# Altium footprint library FootPrintLib_4.PcbLib: 700 footprints (part 12 of 44)
Each footprint in its own frame and in the unit in brackets; x right, y up, seen from the top. Pads: shape width x height; smd on the part's side, far side on the other; paste and mask are expansions set on the pad; w line width, h text height; cw(c..) or ccw(c..) is an arc to the next point about the centre after c.
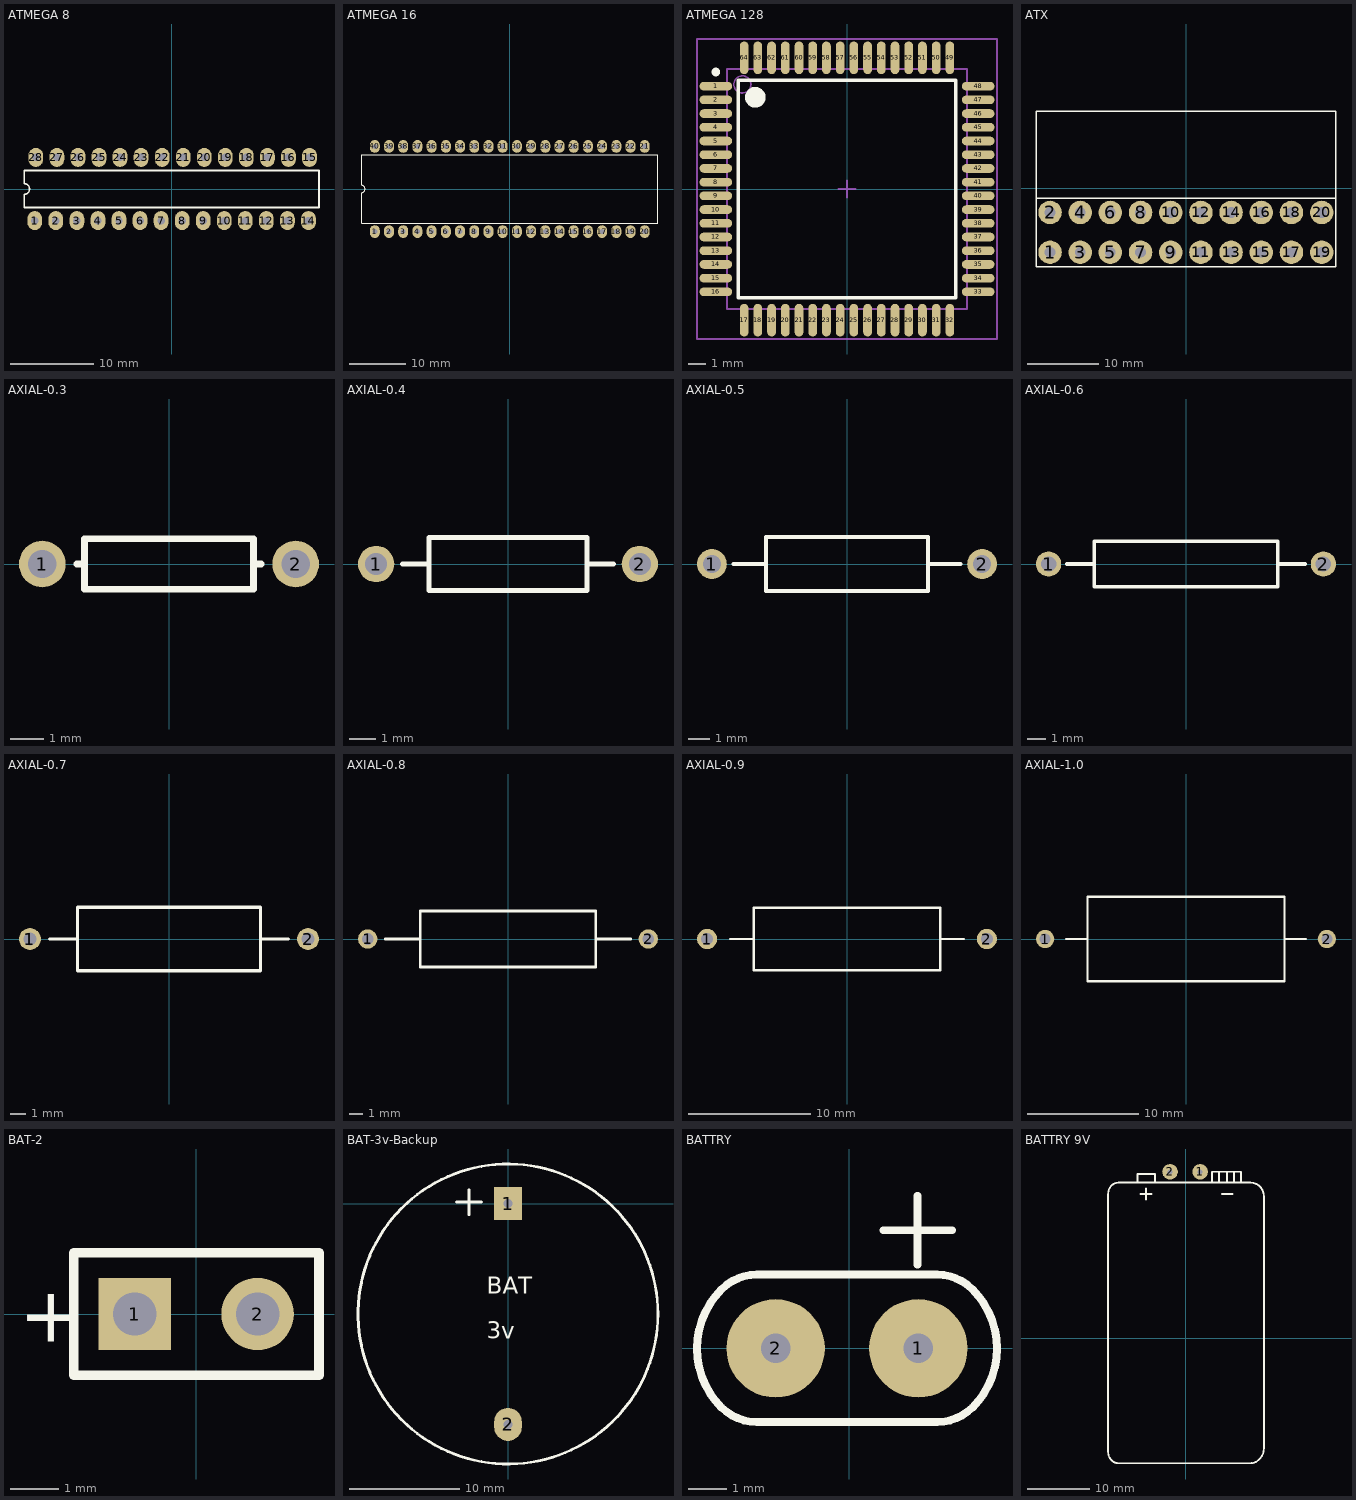
[diagram p11: the footprints below, top view; thin cyan lines are the x and y axes]

## ATMEGA 8 [mil]
pads (28):
  oval 70x90 hole 35.43: 1(-650,-150) 2(-550,-150) 3(-450,-150) 4(-350,-150) 5(-250,-150) 6(-150,-150) 7(-50,-150) 8(50,-150) 9(150,-150) 10(250,-150) 11(350,-150) 12(450,-150) 13(550,-150) 14(650,-150) 15(655,150) 16(555,150) 17(455,150) 18(355,150) 19(255,150) 20(155,150) 21(55,150) 22(-45,150) 23(-145,150) 24(-245,150) 25(-345,150) 26(-445,150) 27(-545,150) 28(-645,150)
Top Overlay:
  lines w7.87: -700,-87.6 -700,-25 ccw(c-700,0) -700,25 -700,87.6 700,87.6 700,-87.6 -700,-87.6

## ATMEGA 16 [mil]
pads (40):
  oval 70x90 hole 35.43: 1(-950,-300) 2(-850,-300) 3(-750,-300) 4(-650,-300) 5(-550,-300) 6(-450,-300) 7(-350,-300) 8(-250,-300) 9(-150,-300) 10(-50,-300) 11(50,-300) 12(150,-300) 13(250,-300) 14(350,-300) 15(450,-300) 16(550,-300) 17(650,-300) 18(750,-300) 19(850,-300) 20(950,-300) 21(950,300) 22(850,300) 23(750,300) 24(650,300) 25(550,300) 26(450,300) 27(350,300) 28(250,300) 29(150,300) 30(50,300) 31(-50,300) 32(-150,300) 33(-250,300) 34(-350,300) 35(-450,300) 36(-550,300) 37(-650,300) 38(-750,300) 39(-850,300) 40(-950,300)
Top Overlay:
  lines w7.87: -1043.31,-240 -1043.31,-25 ccw(c-1043.31,0) -1043.31,25 -1043.31,240 1043.31,240 1043.31,-240 -1043.31,-240

## ATMEGA 128 [mm]
pads (64):
  oval 1.905x0.508 smd: 1(-7.65,6) 2(-7.65,5.2) 3(-7.65,4.4) 4(-7.65,3.6) 5(-7.65,2.8) 6(-7.65,2) 7(-7.65,1.2) 8(-7.65,0.4) 9(-7.65,-0.4) 10(-7.65,-1.2) 11(-7.65,-2) 12(-7.65,-2.8) 13(-7.65,-3.6) 14(-7.65,-4.4) 15(-7.65,-5.2) 16(-7.65,-6) 33(7.65,-6) 34(7.65,-5.2) 35(7.65,-4.4) 36(7.65,-3.6) 37(7.65,-2.8) 38(7.65,-2) 39(7.65,-1.2) 40(7.65,-0.4) 41(7.65,0.4) 42(7.65,1.2) 43(7.65,2) 44(7.65,2.8) 45(7.65,3.6) 46(7.65,4.4) 47(7.65,5.2) 48(7.65,6)
  oval 0.508x1.905 smd: 17(-6,-7.65) 18(-5.2,-7.65) 19(-4.4,-7.65) 20(-3.6,-7.65) 21(-2.8,-7.65) 22(-2,-7.65) 23(-1.2,-7.65) 24(-0.4,-7.65) 25(0.4,-7.65) 26(1.2,-7.65) 27(2,-7.65) 28(2.8,-7.65) 29(3.6,-7.65) 30(4.4,-7.65) 31(5.2,-7.65) 32(6,-7.65) 49(6,7.65) 50(5.2,7.65) 51(4.4,7.65) 52(3.6,7.65) 53(2.8,7.65) 54(2,7.65) 55(1.2,7.65) 56(0.4,7.65) 57(-0.4,7.65) 58(-1.2,7.65) 59(-2,7.65) 60(-2.8,7.65) 61(-3.6,7.65) 62(-4.4,7.65) 63(-5.2,7.65) 64(-6,7.65)
Top Overlay:
  circle w0.25: c-7.65,6.825 r0.125
  circle w0.6: c-5.35,5.35 r0.3
  lines w0.2: -6.35,-6.35 -6.35,6.35 6.35,6.35 6.35,-6.35 -6.35,-6.35
Mechanical 13:
  circle w0.1: c-6.1,6.1 r0.5
  lines w0.1: -7,-7 -7,7 7,7 7,-7 -7,-7
Mechanical 15:
  lines w0.1: -0.5,0 0.5,0 ; 0,-0.5 0,0.5 ; -8.75,-8.75 -8.75,8.75 8.75,8.75 8.75,-8.75 -8.75,-8.75

## ATX [mil]
pads (20):
  round 130 hole 59.06: 1(-752.44,-355) 2(-752.44,-135) 3(-585.44,-355) 4(-585.44,-135) 5(-418.44,-355) 6(-418.44,-135) 7(-251.44,-355) 8(-251.44,-135) 9(-84.44,-355) 10(-84.44,-135) 11(82.56,-355) 12(82.56,-135) 13(249.56,-355) 14(249.56,-135) 15(416.56,-355) 16(416.56,-135) 17(583.56,-355) 18(583.56,-135) 19(750.56,-355) 20(750.56,-135)
Top Overlay:
  lines w8: -830,-55 830,-55 ; -830,-435 830,-435 830,425 -830,425 -830,-435

## AXIAL-0.3 [mm] "Axial Device, Thru-Hole; 2 Leads; 0.3 in Pin Spacing"
height 1.524
pads (2):
  round 1.4 hole 0.85: 1(-3.81,0) 2(3.81,0)
Top Overlay:
  lines w0.2: -2.769,0 -2.54,0 ; 2.769,0 2.54,0 ; 2.54,0 2.54,-0.762 -2.54,-0.762 -2.54,0.762 2.54,0.762 2.54,0

## AXIAL-0.4 [mm] "Axial Device, Thru-Hole; 2 Leads; 0.4 in Pin Spacing"
height 2.032
pads (2):
  round 1.4 hole 0.85: 1(-5.08,0) 2(5.08,0)
Top Overlay:
  lines w0.2: -4.064,0 -3.048,0 ; 3.048,0 4.064,0 ; -3.048,-1.016 3.048,-1.016 3.048,1.016 -3.048,1.016 -3.048,-1.016

## AXIAL-0.5 [mm] "Axial Device, Thru-Hole; 2 Leads; 0.5 in Pin Spacing"
height 2.54
pads (2):
  round 1.4 hole 0.85: 1(-6.35,0) 2(6.35,0)
Top Overlay:
  lines w0.2: -5.334,0 -3.81,0 ; 3.81,0 5.334,0 ; -3.81,-1.27 -3.81,1.27 3.81,1.27 3.81,-1.27 -3.81,-1.27

## AXIAL-0.6 [mm] "Axial Device, Thru-Hole; 2 Leads; 0.6 in Pin Spacing"
height 2.54
pads (2):
  round 1.4 hole 0.85: 1(-7.62,0) 2(7.62,0)
Top Overlay:
  lines w0.2: -6.604,0 -5.08,0 ; 5.08,0 6.604,0 ; -5.08,-1.27 -5.08,1.27 5.08,1.27 5.08,-1.27 -5.08,-1.27

## AXIAL-0.7 [mm] "Axial Device, Thru-Hole; 2 Leads; 0.7 in Pin Spacing"
height 4.064
pads (2):
  round 1.4 hole 0.85: 1(-8.89,0) 2(8.89,0)
Top Overlay:
  lines w0.2: -7.62,0 -5.842,0 ; 5.842,0 7.62,0 ; -5.842,-2.032 5.842,-2.032 5.842,2.032 -5.842,2.032 -5.842,-2.032

## AXIAL-0.8 [mm] "Axial Device, Thru-Hole; 2 Leads; 0.8 in Pin Spacing"
height 4.064
pads (2):
  round 1.4 hole 0.85: 1(-10.16,0) 2(10.16,0)
Top Overlay:
  lines w0.2: -8.89,0 -6.35,0 ; 6.35,0 8.89,0 ; -6.35,-2.032 -6.35,2.032 6.35,2.032 6.35,-2.032 -6.35,-2.032

## AXIAL-0.9 [mm] "Axial Device, Thru-Hole; 2 Leads; 0.9 in Pin Spacing"
height 5.08
pads (2):
  round 1.65 hole 1: 1(-11.43,0) 2(11.43,0)
Top Overlay:
  lines w0.2: -9.525,0 -7.62,0 ; 7.62,0 9.525,0 ; -7.62,-2.54 7.62,-2.54 7.62,2.54 -7.62,2.54 -7.62,-2.54

## AXIAL-1.0 [mm] "Axial Device, Thru-Hole; 2 Leads; 1.0 in Pin Spacing"
height 7.62
pads (2):
  round 1.65 hole 1: 1(-12.7,0) 2(12.7,0)
Top Overlay:
  lines w0.2: -10.795,0 -8.89,0 ; 8.89,0 10.795,0 ; -8.89,-3.81 -8.89,3.81 8.89,3.81 8.89,-3.81 -8.89,-3.81

## BAT-2 [mm] "Battery; 2 Leads"
pads (2):
  rect 1.5x1.5 hole 0.9: 1(-1.27,0)
  round 1.5 hole 0.9: 2(1.27,0)
Top Overlay:
  lines w0.2: -2.54,-1.27 2.54,-1.27 2.54,1.27 -2.54,1.27 -2.54,-1.27
  text "+" at -3.67,-0.577 h1.15

## BAT-3v-Backup [mm]
pads (2):
  rect 2.5x3 hole 0.8: 1(0,0)
  oval 2.5x3 hole 0.8: 2(0,-20)
Top Overlay:
  circle w0.254: c0,-10 r13.58
  lines w0.254: -4.67,0.14 -2.41,0.14 ; -3.52,-1.01 -3.52,1.25
  text "BAT" at -1.905,-8.18 h1.52
  text "3v" at -1.905,-12.25 h1.52

## BATTRY [mil]
pads (2):
  round 100 hole 30: 1(70,0) 2(-75,0)
Top Overlay:
  lines w7.87: 34.21,120 104.21,120 ; 69.21,85 69.21,155
  lines w8: -130,-60.33 cw(c-69.84,-0.16) -130,60 cw(c-93.79,23.79) -93.79,75 88.79,75 cw(c88.79,23.79) 125,60 cw(c64.84,-0.16) 125,-60.33 ; -130,-60 ccw(c-93.79,-23.79) -93.79,-75 88.79,-75 ccw(c88.79,-23.79) 125,-60

## BATTRY 9V [mm]
pads (2):
  round 2.5 hole 0.8: 1(2.286,26.67) 2(-2.54,26.67)
Top Overlay:
  lines w0.3: -7.767,24.934 -7.767,26.289 -6.37,26.289 -4.973,26.289 -4.973,24.934 ; -7.259,23.114 -5.481,23.114 ; -6.37,22.225 -6.37,24.003 ; 4.171,24.934 4.171,26.67 6.796,26.67 8.87,26.67 8.87,24.934 ; 5.314,24.934 5.314,26.67 ; 5.822,23.114 7.473,23.114 ; 6.584,24.934 6.584,26.67 ; 7.727,24.934 7.727,26.67 ; -12.466,-18.248 ccw(c-10.53,-18.248) -11.899,-19.617 ccw(c-10.815,-18.533) -10.815,-20.066 10.258,-20.066 ccw(c10.258,-17.898) 11.791,-19.431 ccw(c10.053,-17.693) 12.511,-17.693 12.511,-17.526 12.511,22.733 ccw(c10.263,22.733) 11.853,24.322 11.84,24.335 ccw(c10.394,22.889) 10.394,24.934 -10.817,24.934 ccw(c-10.817,23.406) -11.898,24.487 ccw(c-10.525,23.114) -12.466,23.114 -12.466,-18.248